# Altium schematic symbol library SS5-20-3.00-X-D-K-XX.SchLib: 1 symbol
Pins are listed as number, name and electrical type; pins without a type are passive.

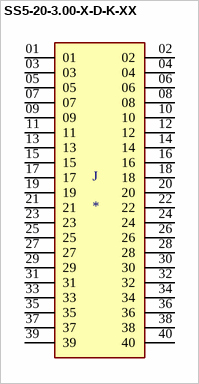
[diagram p0: symbol SS5-20-3.00-X-D-K-XX]

## SS5-20-3.00-X-D-K-XX
designator J
0.50mm Socket Strip Assembly; MP: SS5-20-3.00-X-D-K-XX; MF: Samtec; Package: None; Price: None; Availability: Unavailable; Value: *
footprint SAMTEC_SS5-20-3.00-X-D-K-XX
pins: 01, 02, 03, 04, 05, 06, 07, 08, 09, 10, 11, 12, 13, 14, 15, 16, 17, 18, 19, 20, 21, 22, 23, 24, 25, 26, 27, 28, 29, 30, 31, 32, 33, 34, 35, 36, 37, 38, 39, 40